# EAGLE library part 62101621921 (library Header_R_ESP32)
2.00mm SMT Straight Dual Pin Header WR-PHD Manufacturer's datasheet <https://katalog.we-online.com/em/datasheet/62101621921.pdf>
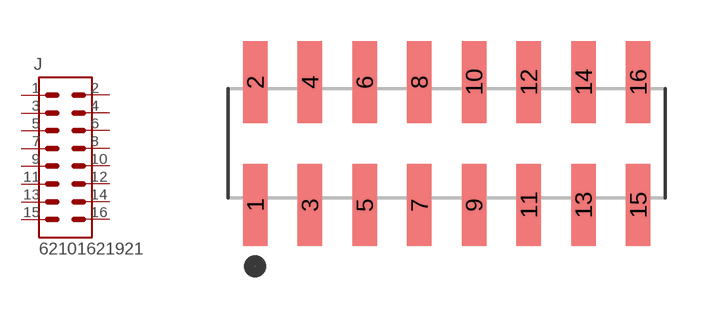
[diagram p5: symbol with the pads of 62101621921; footprint 62101621921]

Designator prefix J

## 62101621921 (CREATED_BY: PCBLayout.com; MANUFACTURER: Wurth Elektronik; MPN: 62102421921)  [62101621921]
1  1  pas
2  2  pas
3  3  pas
4  4  pas
5  5  pas
6  6  pas
7  7  pas
8  8  pas
9  9  pas
10  10  pas
11  11  pas
12  12  pas
13  13  pas
14  14  pas
15  15  pas
16  16  pas

## Footprint 62101621921 (pad centres in mm)
smd 0.89 x 3: 1 -7,-2.25; 2 -7,2.25; 3 -5,-2.25; 4 -5,2.25; 5 -3,-2.25; 6 -3,2.25; 7 -1,-2.25; 8 -1,2.25; 9 1,-2.25; 10 1,2.25; 11 3,-2.25; 12 3,2.25; 13 5,-2.25; 14 5,2.25; 15 7,-2.25; 16 7,2.25